# Altium schematic symbol library photo-elements.SCHLIB: 16 symbols
Pins are listed as number, name and electrical type; pins without a type are passive.

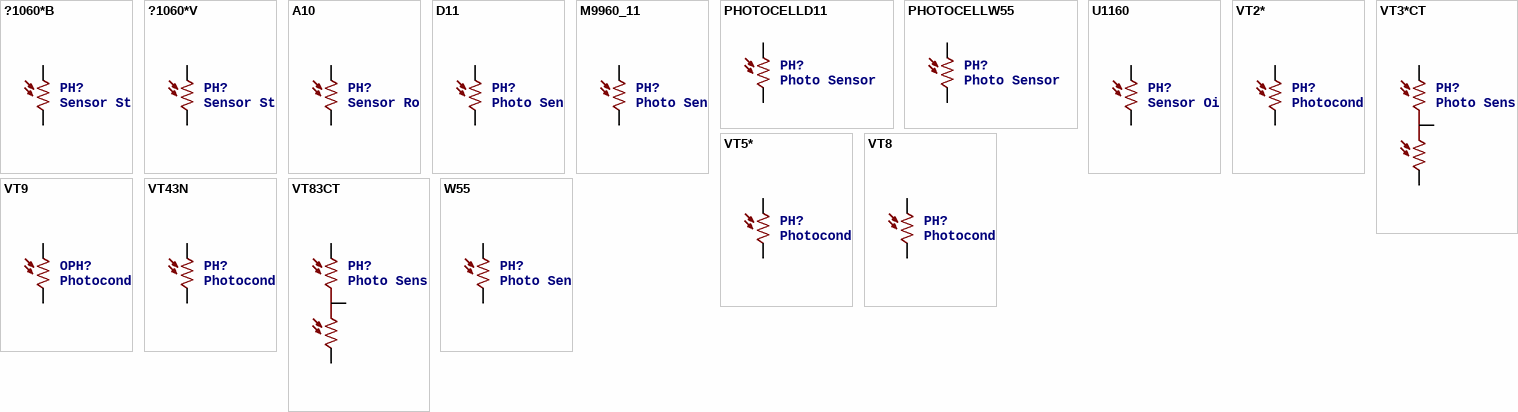
[diagram p0: symbols ?1060*B to W55]

## ?1060*B
designator PH?, comment Sensor Street Light control   Source: http://optoelectronics.perkinelmer.com/content/Datasheets/DTS_PhotocellsB1060.pdf
footprint TO-8_B10
pins: 1, 2

## ?1060*V
designator PH?, comment Sensor Street Light control   Source: http://optoelectronics.perkinelmer.com/content/Datasheets/DTS_PhotocellsB1060.pdf
footprint TO-5_V10
pins: 1, 2

## A10
designator PH?, comment Sensor Robust Light Sensing Applications   Outdoor Light Sensing Application Source: http://optoelectronics.perkinelmer.com/content/Datasheets/DTS_PhotocellsA1050.pdf
footprint T0-46-A10XX
pins: 1, 2

## D11
designator PH?, comment Photo Sensor Oil Burner Control Applications   Source: http://optoelectronics.perkinelmer.com/content/Datasheets/DTS_PhotocellsD1160.pdf
footprint D11XX
pins: 1, 2

## M9960_11
designator PH?, comment Photo Sensor Beacon Light, Photometer Applications   Source: http://optoelectronics.perkinelmer.com/content/Datasheets/DTS_M9960.pdf
footprint M9960
pins: 1, 2

## PHOTOCELLD11
designator PH?, comment Photo Sensor
footprint D11XX_H
pins: 1, 2

## PHOTOCELLW55
designator PH?, comment Photo Sensor
footprint W55XX_H
pins: 1, 2

## U1160
designator PH?, comment Sensor Oil Burner Control Applications   Source: http://optoelectronics.perkinelmer.com/content/Datasheets/DTS_U1160.pdf
footprint U1160
pins: 1, 2

## VT2*
designator PH?, comment Photoconductive Cell VT200 Series   Source: http://optoelectronics.perkinelmer.com/content/Datasheets/DTS_vt200seriesdatasheet.pdf
footprint TO46-VT200
pins: 1, 2

## VT3*CT
designator PH?, comment Photo Sensor Dual Element VT300CT Series   Source: http://optoelectronics.perkinelmer.com/content/Datasheets/DTS_vt300ctseriesdatasheet.pdf
footprint VT300
pins: 1, 2, 3

## VT5*
designator PH?, comment Photoconductive Cell VT500 Sereis   Source: http://optoelectronics.perkinelmer.com/content/Datasheets/DTS_vt500seriesdatasheet.pdf
footprint VT500
pins: 1, 2

## VT8
designator PH?, comment Photoconductive Cell VT800 Series   Source: http://optoelectronics.perkinelmer.com/content/Datasheets/DTS_vt800seriesdatasheet.pdf
footprint VT800
pins: 1, 2

## VT9
designator OPH?, comment Photoconductive Cell VT900 Series   Source: http://optoelectronics.perkinelmer.com/content/Datasheets/DTS_vt900seriesdatasheet.pdf
footprint VT900
pins: 1, 2

## VT43N
designator PH?, comment Photoconductive Cell VT400 Series   Source: http://optoelectronics.perkinelmer.com/content/Datasheets/DTS_vt400seriesdatasheet.pdf
footprint VT400
pins: 1, 2

## VT83CT
designator PH?, comment Photo Sensor Dual element VT800CT Series   Source: http://optoelectronics.perkinelmer.com/content/Datasheets/DTS_vt800ctseriesdatasheet.pdf
footprint VT800CT
pins: 1, 2, 3

## W55
designator PH?, comment Photo Sensor Oil Burner Control Applications   Source: http://optoelectronics.perkinelmer.com/content/Datasheets/DTS_PhotocellsD1160.pdf
footprint W55XX
pins: 1, 2